# Altium footprint library PcbLib1.PcbLib: 15 footprints
Each footprint in its own frame and in the unit in brackets; x right, y up, seen from the top. Pads: shape width x height; smd on the part's side, far side on the other; paste and mask are expansions set on the pad; w line width, h text height; cw(c..) or ccw(c..) is an arc to the next point about the centre after c.
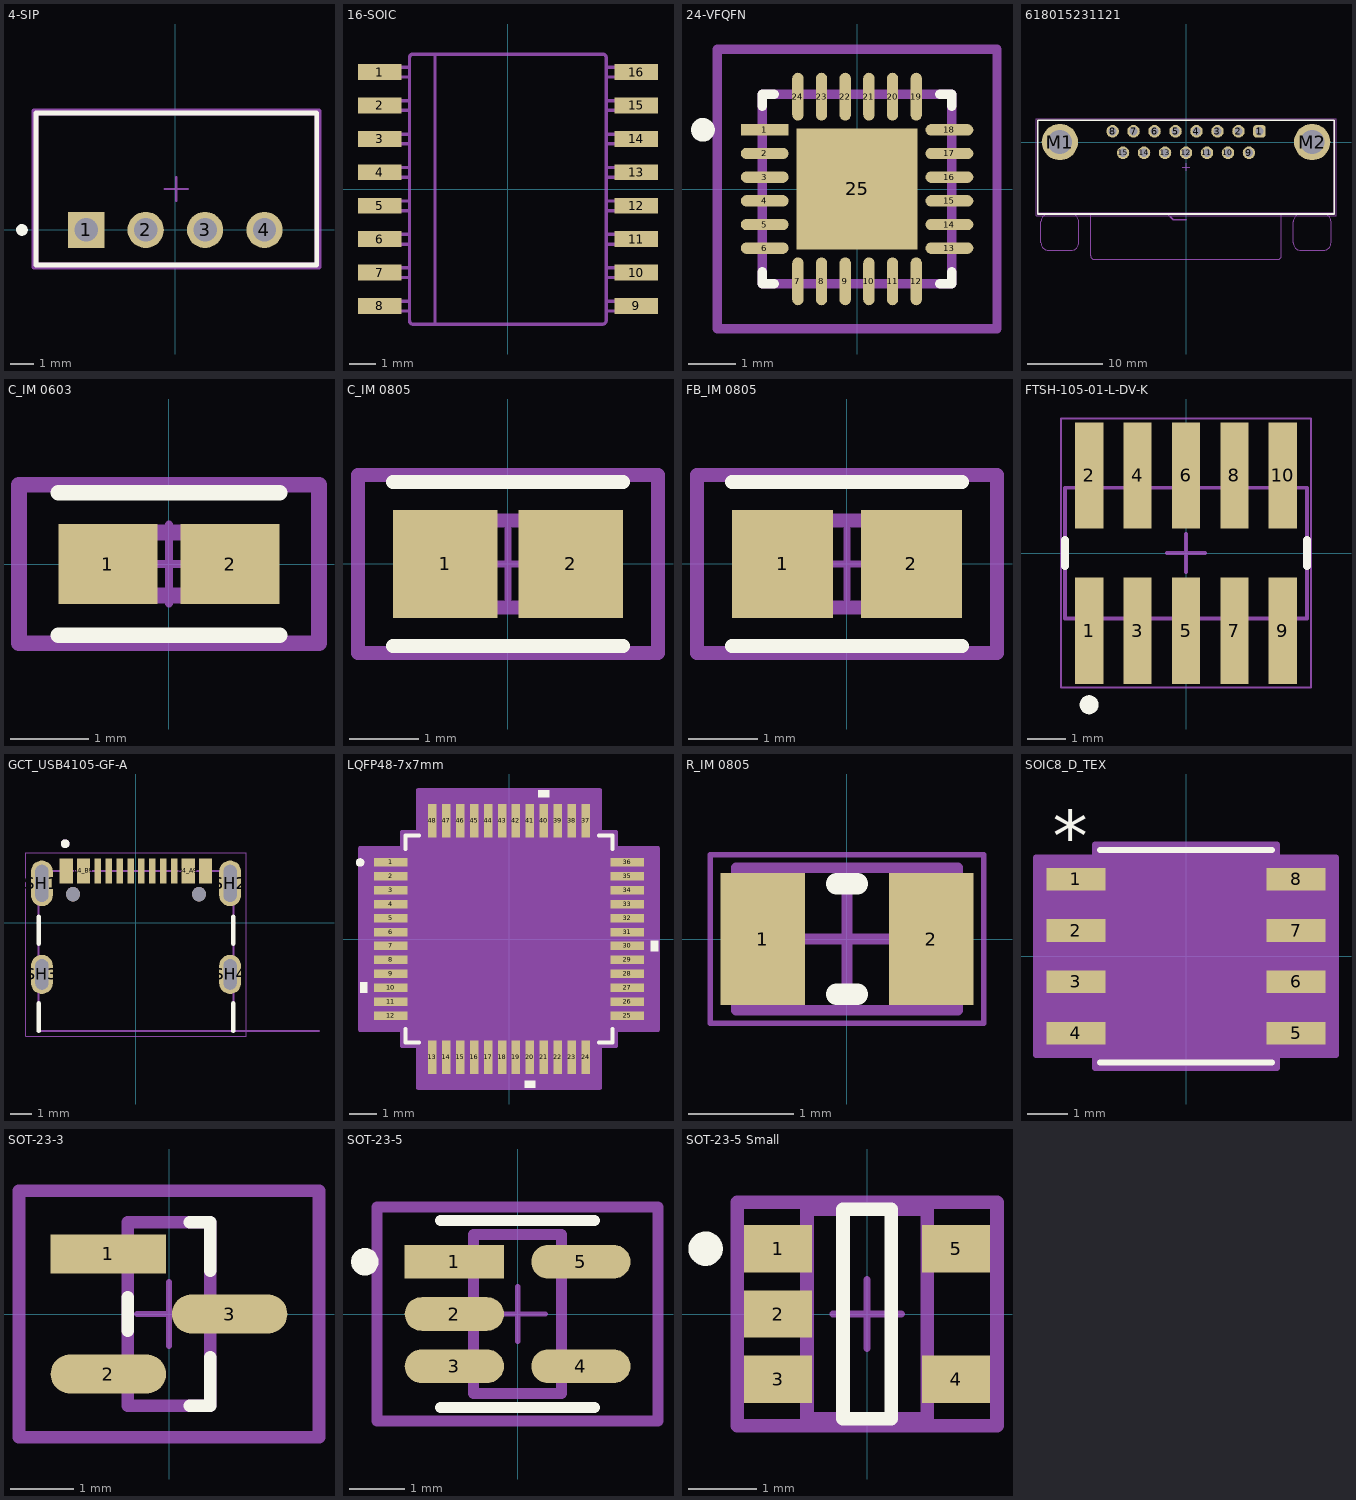
[diagram p0: the footprints below, top view; thin cyan lines are the x and y axes]

## 4-SIP [mm]
pads (4):
  rect 1.55x1.55 hole 1 paste-2539.97 mask+0: 1(-3.81,0)
  round 1.55 hole 1 paste-2539.97 mask+0: 2(-1.27,0) 3(1.27,0) 4(3.81,0)
Top Overlay:
  circle w0.25: c-6.56,0 r0.125
  lines w0.2: -5.96,-1.5 6.04,-1.5 6.04,5 -5.96,5 -5.96,-1.5
Top 3D Body:
  lines w0.2: -5.96,-1.5 6.04,-1.5 6.04,5 -5.96,5 -5.96,-1.5
Board:
  lines w0.2: -6.06,-1.6 6.14,-1.6 6.14,5.1 -6.06,5.1 -6.06,-1.6
Top Assembly:
  lines w0.2: -6.06,-1.6 6.14,-1.6 6.14,5.1 -6.06,5.1 -6.06,-1.6
  text ".Designator" at 0.04,1.938 h1
Top Component Center:
  lines w0.1: -0.46,1.75 0.54,1.75 ; 0.04,1.25 0.04,2.25
3D body "IC_Recom_Power_RFM-0505S_eec.STEP": height 0.25, standoff 0, extent -6.06,-1.6 6.14,5.1

## 16-SOIC [mm]
pads (16):
  rect 1.65x0.6 smd paste+0 mask+0: 1(-4.875,4.445) 2(-4.875,3.175) 3(-4.875,1.905) 4(-4.875,0.635) 5(-4.875,-0.635) 6(-4.875,-1.905) 7(-4.875,-3.175) 8(-4.875,-4.445) 9(4.875,-4.445) 10(4.875,-3.175) 11(4.875,-1.905) 12(4.875,-0.635) 13(4.875,0.635) 14(4.875,1.905) 15(4.875,3.175) 16(4.875,4.445)
Top Overlay:
  text ".Designator" at -3.492,-0.635 h1.27
Mechanical 13:
  lines w0.1: -2.775,-5.135 -2.775,5.127
  lines w0.127: -3.74,-4.633 -5.15,-4.633 -5.15,-4.265 -3.74,-4.265 ; -3.74,-3.363 -5.15,-3.363 -5.15,-2.995 -3.74,-2.995 ; -3.74,-2.093 -5.15,-2.093 -5.15,-1.725 -3.74,-1.725 ; -3.74,-0.823 -5.15,-0.823 -5.15,-0.455 -3.74,-0.455 ; -3.74,0.447 -5.15,0.447 -5.15,0.815 -3.74,0.815 ; -3.74,1.717 -5.15,1.717 -5.15,2.085 -3.74,2.085 ; -3.74,2.987 -5.15,2.987 -5.15,3.355 -3.74,3.355 ; -3.74,4.257 -5.15,4.257 -5.15,4.625 -3.74,4.625 ; 3.74,-4.633 5.15,-4.633 5.15,-4.265 3.74,-4.265 ; 3.74,-3.363 5.15,-3.363 5.15,-2.995 3.74,-2.995 ; 3.74,-2.093 5.15,-2.093 5.15,-1.725 3.74,-1.725 ; 3.74,-0.823 5.15,-0.823 5.15,-0.455 3.74,-0.455 ; 3.74,0.447 5.15,0.447 5.15,0.815 3.74,0.815 ; 3.74,1.717 5.15,1.717 5.15,2.085 3.74,2.085 ; 3.74,2.987 5.15,2.987 5.15,3.355 3.74,3.355 ; 3.74,4.257 5.15,4.257 5.15,4.625 3.74,4.625 ; -3.74,-5.008 ccw(c-3.613,-5.008) -3.614,-5.135 3.601,-5.135 ccw(c3.6,-5.008) 3.727,-5.008 3.727,5 ccw(c3.6,5) 3.601,5.127 -3.614,5.127 ccw(c-3.613,5) -3.74,5 -3.74,-5.008
  text ".Designator" at -3.492,-0.635 h1.27
3D body "DW0016B.stp": height 2.59, standoff 0, extent -5.174,-5.154 5.161,5.146

## 24-VFQFN [mm]
pads (25):
  rect 1.01x0.239 smd paste+0 mask+0: 1(-1.951,1.25)
  rrect100% 1.01x0.239 smd paste+0 mask+0: 2(-1.951,0.75) 3(-1.951,0.25) 4(-1.951,-0.25) 5(-1.951,-0.75) 6(-1.951,-1.25) 13(1.951,-1.25) 14(1.951,-0.75) 15(1.951,-0.25) 16(1.951,0.25) 17(1.951,0.75) 18(1.951,1.25)
  rrect100% 0.239x1.01 smd paste+0 mask+0: 7(-1.25,-1.951) 8(-0.75,-1.951) 9(-0.25,-1.951) 10(0.25,-1.951) 11(0.75,-1.951) 12(1.25,-1.951) 19(1.25,1.951) 20(0.75,1.951) 21(0.25,1.951) 22(-0.25,1.951) 23(-0.75,1.951) 24(-1.25,1.951)
  rect 2.55x2.55 smd paste-1000 mask+0: 25(0,0)
Top Overlay:
  circle w0.25: c-3.256,1.25 r0.125
  lines w0.2: -2,-1.75 -2,-2 -1.75,-2 ; -2,1.75 -2,2 -1.75,2 ; 1.75,-2 2,-2 2,-1.75 ; 1.75,2 2,2 2,1.75
Top Paste:
  rectangle: -0.806,-0.806 0.806,0.806
Top 3D Body:
  lines w0.2: -2,-2 2,-2 2,2 -2,2 -2,-2
Board:
  lines w0.2: -2.956,-2.956 2.956,-2.956 2.956,2.956 -2.956,2.956 -2.956,-2.956
Top Assembly:
  lines w0.2: -2.956,-2.956 2.956,-2.956 2.956,2.956 -2.956,2.956 -2.956,-2.956
  text ".Designator" at 0,0.188 h1
Top Component Center:
  lines w0.1: -0.5,0 0.5,0 ; 0,-0.5 0,0.5
3D body "IC_Silicon_Labs_CP2102N-A02-GQFN24R_eec.STEP": height 0.25, standoff 0, extent -2.956,-2.956 2.956,2.956

## 618015231121 [mm]
pads (17):
  rrect50% 1.65x1.65 hole 1.09: 1(9.695,1.42)
  round 1.65 hole 1.09: 2(6.925,1.42) 3(4.155,1.42) 4(1.385,1.42) 5(-1.385,1.42) 6(-4.155,1.42) 7(-6.925,1.42) 8(-9.695,1.42) 9(8.31,-1.42) 10(5.54,-1.42) 11(2.77,-1.42) 12(0,-1.42) 13(-2.77,-1.42) 14(-5.54,-1.42) 15(-8.31,-1.42)
  round 4.8 hole 3.2: M1(-16.65,0) M2(16.65,0)
Top Overlay:
  lines w0.2: -19.6,-9.5 19.6,-9.5 19.6,2.9 -19.6,2.9 -19.6,-9.5
Top Courtyard:
  lines w0.05: -19.8,-9.7 -19.8,3.1 19.8,3.1 19.8,-9.7 -19.8,-9.7
Top Assembly:
  lines w0.1: -18.15,-9.5 ccw(c-18.15,-10.5) -19.15,-10.5 -19.15,-13.3 ccw(c-18.15,-13.3) -18.15,-14.3 -15.15,-14.3 ccw(c-15.15,-13.3) -14.15,-13.3 -14.15,-10.5 ccw(c-15.15,-10.5) -15.15,-9.5 ; -12.6,-9.5 -12.6,-15 ccw(c-12.1,-15) -12.1,-15.5 12.1,-15.5 ccw(c12.1,-15) 12.6,-15 12.6,-9.5 ; 15.15,-9.5 ccw(c15.15,-10.5) 14.15,-10.5 14.15,-13.3 ccw(c15.15,-13.3) 15.15,-14.3 18.15,-14.3 ccw(c18.15,-13.3) 19.15,-13.3 19.15,-10.5 ccw(c18.15,-10.5) 18.15,-9.5 ; -19.6,-9.5 19.6,-9.5 19.6,2.9 -19.6,2.9 -19.6,-9.5 ; 3.8,-15.5 3.8,-15.5
Assembly Notes:
  lines w0.2: -19.6,-9.42 19.6,-9.42 ; -2.5,-9.42 -1.67,-10.25 0,-10.25
  text "PCB Edge" at 0.4,-10.85 h1.02
Top Designator:
  text ".Designator" at -3.647,-3.657 h1
Bottom Courtyard:
  lines w0.1: -0.5,-3.3 0.5,-3.3 ; 0,-3.8 0,-2.8
3D body "618015231121.stp": height 12.55, standoff -3.95, extent -19.6,-15.5 19.6,2.9

## C_IM 0603 [mm]
pads (2):
  rect 1.258x1.012 smd paste+0 mask+0: 1(-0.777,0) 2(0.777,0)
Top Overlay:
  lines w0.2: -1.406,-0.906 1.406,-0.906 ; -1.406,0.906 1.406,0.906
Top 3D Body:
  lines w0.2: -0.8,-0.4 -0.8,0.4 0.8,0.4 0.8,-0.4 -0.8,-0.4
Board:
  lines w0.2: -1.906,-1.006 -1.906,1.006 1.906,1.006 1.906,-1.006 -1.906,-1.006
Top Assembly:
  lines w0.2: -1.906,-1.006 -1.906,1.006 1.906,1.006 1.906,-1.006 -1.906,-1.006
  text ".Designator" at 0,0.188 h1
Top Component Center:
  lines w0.1: -0.5,0 0.5,0 ; 0,-0.5 0,0.5
3D body "Cap_YAGEO_CC0603KRX7R9BB271_eec.STEP": height 0.25, standoff 0, extent -1.906,-1.006 1.906,1.006

## C_IM 0805 [mm]
pads (2):
  rect 1.505x1.556 smd paste+0 mask+0: 1(-0.901,0) 2(0.901,0)
Top Overlay:
  lines w0.2: -1.653,-1.178 1.653,-1.178 ; -1.653,1.178 1.653,1.178
Top 3D Body:
  lines w0.2: -1,-0.625 -1,0.625 1,0.625 1,-0.625 -1,-0.625
Board:
  lines w0.2: -2.153,-1.278 -2.153,1.278 2.153,1.278 2.153,-1.278 -2.153,-1.278
Top Assembly:
  lines w0.2: -2.153,-1.278 -2.153,1.278 2.153,1.278 2.153,-1.278 -2.153,-1.278
  text ".Designator" at 0,0.188 h1
Top Component Center:
  lines w0.1: -0.5,0 0.5,0 ; 0,-0.5 0,0.5
3D body "Cap_Yageo_CC0805KKX7R7BB105_eec.STEP": height 0.25, standoff 0, extent -2.153,-1.278 2.153,1.278

## FB_IM 0805 [mm]
pads (2):
  rect 1.455x1.556 smd paste+0 mask+0: 1(-0.926,0) 2(0.926,0)
Top Overlay:
  lines w0.2: -1.653,-1.178 1.653,-1.178 ; -1.653,1.178 1.653,1.178
Top 3D Body:
  lines w0.2: -1,-0.625 -1,0.625 1,0.625 1,-0.625 -1,-0.625
Board:
  lines w0.2: -2.153,-1.278 -2.153,1.278 2.153,1.278 2.153,-1.278 -2.153,-1.278
Top Assembly:
  lines w0.2: -2.153,-1.278 -2.153,1.278 2.153,1.278 2.153,-1.278 -2.153,-1.278
  text ".Designator" at 0,0.188 h1
Top Component Center:
  lines w0.1: -0.5,0 0.5,0 ; 0,-0.5 0,0.5
3D body "FBead_Murata_BLM21AG102SN1D_eec.STEP": height 0.25, standoff 0, extent -2.153,-1.278 2.153,1.278

## FTSH-105-01-L-DV-K [mm]
pads (10):
  rect 0.74x2.79 smd: 1(-2.54,-2.035) 2(-2.54,2.035) 3(-1.27,-2.035) 4(-1.27,2.035) 5(0,-2.035) 6(0,2.035) 7(1.27,-2.035) 8(1.27,2.035) 9(2.54,-2.035) 10(2.54,2.035)
Top Overlay:
  circle w0.25: c-2.54,-3.98 r0.125
  lines w0.2: -3.175,-0.341 -3.175,0.341 ; 3.175,-0.341 3.175,0.341
Mechanical 13:
  lines w0.1: -3.175,-1.715 -3.175,1.715 3.175,1.715 3.175,-1.715 -3.175,-1.715
Mechanical 15:
  lines w0.05: -3.275,-3.53 -3.275,3.53 3.275,3.53 3.275,-3.53 -3.275,-3.53
  lines w0.1: -0.5,0 0.5,0 ; 0,-0.5 0,0.5
3D body "FTSH-105-01-L-DV-K.stp": height 6.12, standoff 0, extent -3.175,-2.921 3.175,2.921

## GCT_USB4105-GF-A [mm]
pads (18):
  rect 0.6x1.15 smd mask+0.05: A1_B12(-3.2,2.378) A4_B9(-2.4,2.378) B1_A12(3.2,2.378) B4_A9(2.4,2.378)
  rect 0.3x1.15 smd mask+0.05: A5(-1.25,2.378) A6(-0.25,2.378) A7(0.25,2.378) A8(1.25,2.378) B5(1.75,2.378) B6(0.75,2.378) B7(-0.75,2.378) B8(-1.75,2.378)
  oval 1x2.1 hole 0.6 slot 1.7 at 90 deg: SH1(-4.32,1.803) SH2(4.32,1.803)
  oval 1x1.8 hole 0.6 slot 1.4 at 90 deg: SH3(-4.32,-2.377) SH4(4.32,-2.377)
  round 0.65 hole 0.65 unplated: ""(-2.89,1.303) ""(2.89,1.303)
Top Overlay:
  circle w0.2: c-3.25,3.623 r0.1
  lines w0.2: -4.47,-4.977 -4.47,-3.697 ; -4.47,-0.977 -4.47,0.273 ; 4.47,-4.977 4.47,-3.697 ; 4.47,-0.977 4.47,0.273
Mechanical 13:
  circle w0.2: c-3.25,3.623 r0.1
  lines w0.1: 8.4,-4.977 4.47,-4.977 ; 4.47,-4.977 -4.47,-4.977 -4.47,2.373 4.47,2.373 4.47,-4.977
  text "PCB EDGE" at 5.4,-4.877 h0.41
Mechanical 15:
  lines w0.05: -5.07,-5.227 5.07,-5.227 5.07,3.203 -5.07,3.203 -5.07,-5.227
3D body "USB4105-GF-A.STEP": height 3.32, standoff -1.09, extent -4.47,-5.013 4.47,2.697

## LQFP48-7x7mm [mm]
pads (48):
  rect 1.194x0.305 smd paste+0 mask+0: 1(-4.25,2.75) 2(-4.25,2.25) 3(-4.25,1.75) 4(-4.25,1.25) 5(-4.25,0.75) 6(-4.25,0.25) 7(-4.25,-0.25) 8(-4.25,-0.75) 9(-4.25,-1.25) 10(-4.25,-1.75) 11(-4.25,-2.25) 12(-4.25,-2.75) 25(4.25,-2.75) 26(4.25,-2.25) 27(4.25,-1.75) 28(4.25,-1.25) 29(4.25,-0.75) 30(4.25,-0.25) 31(4.25,0.25) 32(4.25,0.75) 33(4.25,1.25) 34(4.25,1.75) 35(4.25,2.25) 36(4.25,2.75)
  rect 0.305x1.194 smd paste+0 mask+0: 13(-2.75,-4.25) 14(-2.25,-4.25) 15(-1.75,-4.25) 16(-1.25,-4.25) 17(-0.75,-4.25) 18(-0.25,-4.25) 19(0.25,-4.25) 20(0.75,-4.25) 21(1.25,-4.25) 22(1.75,-4.25) 23(2.25,-4.25) 24(2.75,-4.25) 37(2.75,4.25) 38(2.25,4.25) 39(1.75,4.25) 40(1.25,4.25) 41(0.75,4.25) 42(0.25,4.25) 43(-0.25,4.25) 44(-0.75,4.25) 45(-1.25,4.25) 46(-1.75,4.25) 47(-2.25,4.25) 48(-2.75,4.25)
Top Overlay:
  circle w0.152: c-5.351,2.75 r0.076
  region: -5.101,-1.559 -5.355,-1.559 -5.355,-1.94 -5.101,-1.94
  region: 0.941,-5.101 0.56,-5.101 0.56,-5.355 0.941,-5.355
  region: 5.101,-0.059 5.355,-0.059 5.355,-0.44 5.101,-0.44
  region: 1.441,5.101 1.06,5.101 1.06,5.355 1.441,5.355
  lines w0.152: -3.721,-3.235 -3.721,-3.721 -3.235,-3.721 ; -3.721,3.235 -3.721,3.721 -3.235,3.721 ; 3.235,-3.721 3.721,-3.721 3.721,-3.235 ; 3.235,3.721 3.721,3.721 3.721,3.235
  text ".Designator" at -3.492,-0.635 h1.27
Mechanical 13:
  circle w0.025: c-3.018,2.75 r0.076
  lines w0.025: -3.594,2.324 -2.324,3.594 ; -3.594,-3.594 3.594,-3.594 3.594,3.594 -3.594,3.594 -3.594,-3.594
  text ".Designator" at -3.492,-0.635 h1.27
Mechanical 15:
  region: -3.258,-3.848 -3.848,-3.848 -3.848,-3.258 -5.355,-3.258 -5.355,3.258 -3.848,3.258 -3.848,3.848 -3.258,3.848 -3.258,5.355 3.258,5.355 3.258,3.848 3.848,3.848 3.848,3.258 5.355,3.258 5.355,-3.258 3.848,-3.258 3.848,-3.848 3.258,-3.848 3.258,-5.355 -3.258,-5.355
  lines w0.152: -5.355,-3.258 -3.848,-3.258 -3.848,-3.848 -3.258,-3.848 -3.258,-5.355 3.258,-5.355 3.258,-3.848 3.848,-3.848 3.848,-3.258 5.355,-3.258 5.355,3.258 3.848,3.258 3.848,3.848 3.258,3.848 3.258,5.355 -3.258,5.355 -3.258,3.848 -3.848,3.848 -3.848,3.258 -5.355,3.258 -5.355,-3.258
3D body "LQFP48-7x7mm.step": height 1.6, standoff 0, extent -4.497,-4.497 4.497,4.497

## R_IM 0805 [mm]
pads (2):
  rect 0.8x1.25 smd: 1(-0.8,0) 2(0.8,0)
Top Overlay:
  lines w0.2: -0.1,-0.525 0.1,-0.525 ; -0.1,0.525 0.1,0.525
Mechanical 13:
  lines w0.1: -1.05,-0.675 -1.05,0.675 1.05,0.675 1.05,-0.675 -1.05,-0.675
Mechanical 15:
  lines w0.05: -1.3,-0.8 -1.3,0.8 1.3,0.8 1.3,-0.8 -1.3,-0.8
  lines w0.1: -0.5,0 0.5,0 ; 0,-0.5 0,0.5
3D body "RESC2012X06N.step": height 0.6, standoff 0, extent -1.05,-0.675 1.05,0.675

## SOIC8_D_TEX [mil]
pads (8):
  rect 57.5x22 smd paste+0 mask+0: 1(-107.25,75) 2(-107.25,25) 3(-107.25,-25) 4(-107.25,-75) 5(107.25,-75) 6(107.25,-25) 7(107.25,25) 8(107.25,75)
Top Overlay:
  lines w6: -83.5,-103.5 83.5,-103.5 ; -83.5,103.5 83.5,103.5
  text ".Designator" at -137.5,-25 h50
  text "*" at -129.75,92 h50
Mechanical 13:
  lines w1: -12,98.5 ccw(c0,98.5) 12,98.5 ; -122,-85 -122,-65 -78.5,-65 -78.5,-85 -122,-85 ; -122,-35 -122,-15 -78.5,-15 -78.5,-35 -122,-35 ; -122,15 -122,35 -78.5,35 -78.5,15 -122,15 ; -122,65 -122,85 -78.5,85 -78.5,65 -122,65 ; -78.5,-98.5 78.5,-98.5 78.5,98.5 -78.5,98.5 -78.5,-98.5 ; 78.5,-85 78.5,-65 122,-65 122,-85 78.5,-85 ; 78.5,-35 78.5,-15 122,-15 122,-35 78.5,-35 ; 78.5,15 78.5,35 122,35 122,15 78.5,15 ; 78.5,65 78.5,85 122,85 122,65 78.5,65
  text "*" at -76,45.5 h50
  text ".Designator" at -137.5,-25 h50
Mechanical 15:
  region: -88.5,-96 -146,-96 -146,96 -88.5,96 -88.5,108.5 88.5,108.5 88.5,96 146,96 146,-96 88.5,-96 88.5,-108.5 -88.5,-108.5
  lines w6: -146,-96 -146,96 -88.5,96 -88.5,108.5 88.5,108.5 88.5,96 146,96 146,-96 88.5,-96 88.5,-108.5 -88.5,-108.5 -88.5,-96 -146,-96
3D body "SOIC8_D_TEX.step": height 69.09, standoff 0, extent -122.01,-98.5 122.01,98.5

## SOT-23-3 [mm]
pads (3):
  rect 1.824x0.618 smd paste+0 mask+0: 1(-0.96,0.95)
  rrect100% 1.824x0.618 smd paste+0 mask+0: 2(-0.96,-0.95) 3(0.96,0)
Top Overlay:
  lines w0.2: -0.65,-0.266 -0.65,0.266 ; 0.327,-1.45 0.65,-1.45 0.65,-0.684 ; 0.327,1.45 0.65,1.45 0.65,0.684
Top 3D Body:
  lines w0.2: -0.65,-1.45 -0.65,1.45 0.65,1.45 0.65,-1.45 -0.65,-1.45
Board:
  lines w0.2: -2.372,-1.95 -2.372,1.95 2.372,1.95 2.372,-1.95 -2.372,-1.95
Top Assembly:
  lines w0.2: -2.372,-1.95 -2.372,1.95 2.372,1.95 2.372,-1.95 -2.372,-1.95
  text ".Designator" at 0,-0.001 h1
Top Component Center:
  lines w0.1: -0.5,0 0.5,0 ; 0,-0.5 0,0.5
3D body "Trans_ON_Semiconductor_2N7002K_eec.STEP": height 0.25, standoff 0, extent -2.372,-1.95 2.372,1.95

## SOT-23-5 [mm]
pads (5):
  rect 1.805x0.612 smd paste+0 mask+0: 1(-1.15,0.95)
  rrect100% 1.805x0.612 smd paste+0 mask+0: 2(-1.15,0) 3(-1.15,-0.95) 4(1.15,-0.95) 5(1.15,0.95)
Top Overlay:
  circle w0.25: c-2.778,0.95 r0.125
  lines w0.2: -1.4,-1.7 1.4,-1.7 ; -1.4,1.7 1.4,1.7
Top 3D Body:
  lines w0.2: -0.8,-1.45 0.8,-1.45 0.8,1.45 -0.8,1.45 -0.8,-1.45
Board:
  lines w0.2: -2.553,-1.95 2.553,-1.95 2.553,1.95 -2.553,1.95 -2.553,-1.95
Top Assembly:
  lines w0.2: -2.553,-1.95 2.553,-1.95 2.553,1.95 -2.553,1.95 -2.553,-1.95
  text ".Designator" at 0,-0.001 h1
Top Component Center:
  lines w0.1: -0.5,0 0.5,0 ; 0,-0.5 0,0.5
3D body "IC_Texas_Instruments_TLV75533PDBVR_eec.STEP": height 0.25, standoff 0, extent -2.553,-1.95 2.553,1.95

## SOT-23-5 Small [mm]
pads (5):
  rect 0.99x0.69 smd paste+0 mask+0: 1(-1.295,0.95) 2(-1.295,0) 3(-1.295,-0.95) 4(1.295,-0.95) 5(1.295,0.95)
Top Overlay:
  circle w0.25: c-2.35,0.95 r0.125
  lines w0.2: -0.35,-1.525 0.35,-1.525 0.35,1.525 -0.35,1.525 -0.35,-1.525
Top 3D Body:
  lines w0.2: -0.875,-1.525 0.875,-1.525 0.875,1.525 -0.875,1.525 -0.875,-1.525
Top Courtyard:
  lines w0.2: -1.89,-1.625 1.89,-1.625 1.89,1.625 -1.89,1.625 -1.89,-1.625
Top Assembly:
  lines w0.2: -1.89,-1.625 1.89,-1.625 1.89,1.625 -1.89,1.625 -1.89,-1.625
  text ".Designator" at 0,0.188 h1
Top Component Center:
  lines w0.1: -0.5,0 0.5,0 ; 0,-0.5 0,0.5
3D body "Diode_Littelfuse_SP0504BAHTG_eec.STEP": height 0.25, standoff 0, extent -1.89,-1.625 1.89,1.625